# Altium footprint library Components - 20.03.23 - 13.52.PcbLib: 1 footprints
Each footprint in its own frame and in the unit in brackets; x right, y up, seen from the top. Pads: shape width x height; smd on the part's side, far side on the other; paste and mask are expansions set on the pad; w line width, h text height; cw(c..) or ccw(c..) is an arc to the next point about the centre after c.
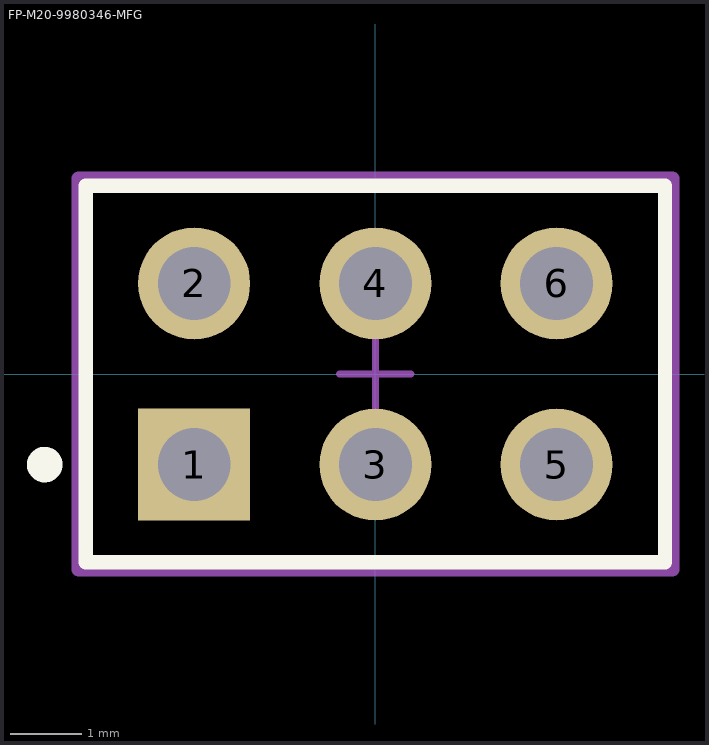
[diagram p0: the footprint, top view; thin cyan lines are the x and y axes]

## FP-M20-9980346-MFG [mm]
pads (6):
  rect 1.57x1.57 hole 1.02 paste-1000 mask+0: 1(-2.54,-1.27)
  round 1.57 hole 1.02 paste-1000 mask+0: 2(-2.54,1.27) 3(0,-1.27) 4(0,1.27) 5(2.54,-1.27) 6(2.54,1.27)
Top Overlay:
  circle w0.25: c-4.635,-1.27 r0.125
  lines w0.2: -4.06,-2.64 -4.06,2.64 4.06,2.64 4.06,-2.64 -4.06,-2.64
Top Assembly:
  lines w0.2: -4.16,-2.74 -4.16,2.74 4.16,2.74 4.16,-2.74 -4.16,-2.74
  text ".Designator" at 0,0.188 h1
Top 3D Body:
  lines w0.2: -4.06,-2.64 -4.06,2.64 4.06,2.64 4.06,-2.64 -4.06,-2.64
Top Courtyard:
  lines w0.2: -4.16,-2.74 -4.16,2.74 4.16,2.74 4.16,-2.74 -4.16,-2.74
Top Component Center:
  lines w0.1: -0.5,0 0.5,0 ; 0,-0.5 0,0.5
3D body "Conn_Harwin_M20-9980346_eec.STEP": height 0.25, standoff 0, extent -4.16,-2.74 4.16,2.74